# EAGLE library part LED_BARGRAPH_5 (library freBotLib)
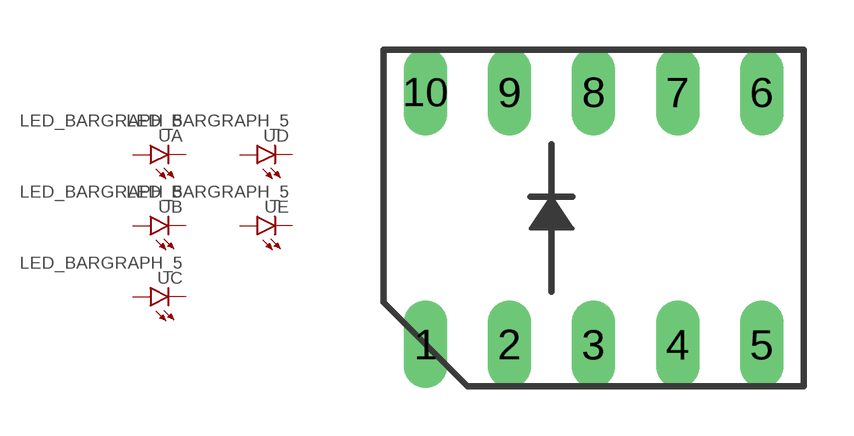
[diagram p2: symbol with the pads of LED_BARGRAPH_5; footprint LED_BARGRAPH_5]

Designator prefix -; gates A=LED B=LED C=LED D=LED E=LED

## LED_BARGRAPH_5  [LED_BARGRAPH_5]
1  A:A  pas
2  B:A  pas
3  C:A  pas
4  D:A  pas
5  E:A  pas
6  E:C  pas
7  D:C  pas
8  C:C  pas
9  B:C  pas
10  A:C  pas

## Footprint LED_BARGRAPH_5 (pad centres in mm)
drill 0.813 long: 1 -3.81,-3.81; 2 -1.27,-3.81; 3 1.27,-3.81; 4 3.81,-3.81; 5 6.35,-3.81; 6 6.35,3.81; 7 3.81,3.81; 8 1.27,3.81; 9 -1.27,3.81; 10 -3.81,3.81